# Altium footprint library 1776275_2.PcbLib: 1 footprints
Each footprint in its own frame and in the unit in brackets; x right, y up, seen from the top. Pads: shape width x height; smd on the part's side, far side on the other; paste and mask are expansions set on the pad; w line width, h text height; cw(c..) or ccw(c..) is an arc to the next point about the centre after c.
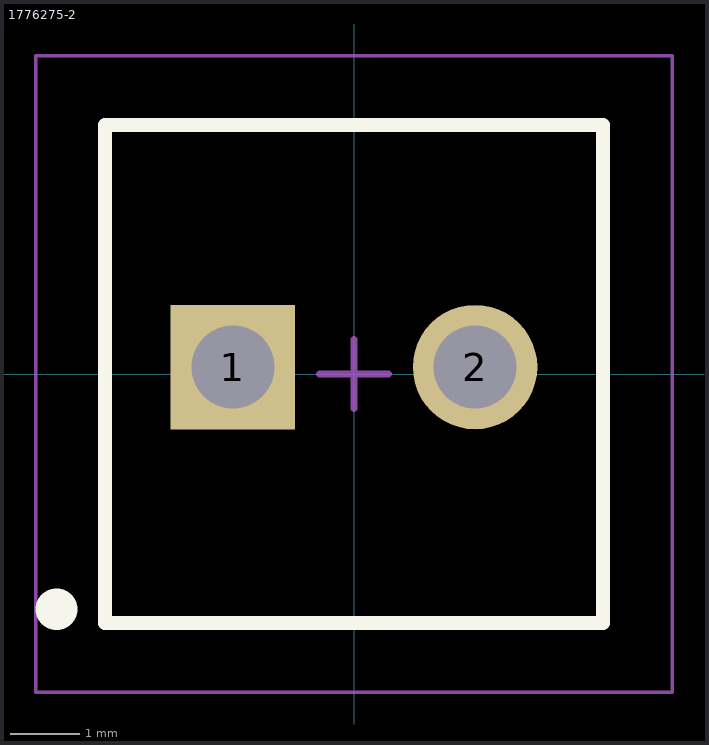
[diagram p0: the footprint, top view; thin cyan lines are the x and y axes]

## 1776275-2 [mm] "PCB Terminal Blocks, Header, Wire-to-Board, 2 Pins, 3.5mm, 1 Row, Side Wire Entry Angle, 26 – 18AWG Wire Size"
height 8.3
pads (2):
  rect 1.8x1.8 hole 1.2: 1(-1.75,0.1)
  round 1.8 hole 1.2: 2(1.75,0.1)
Top Overlay:
  circle w0.6: c-4.3,-3.4 r0.001
  lines w0.2: -3.6,-3.6 3.6,-3.6 3.6,3.6 -3.6,3.6 -3.6,-3.6
Top Comment:
  text ".Comment" at 1.35,5.35 h1.2
Top Designator:
  text ".Designator" at -0.4,5.35 h1.2
Top Component Outline:
  lines w0.1: -3.6,-3.6 3.6,-3.6 3.6,3.6 -3.6,3.6 -3.6,-3.6
Top Courtyard (Mech15):
  lines w0.05: -4.6,-4.6 -4.6,4.6 4.6,4.6 4.6,-4.6 -4.6,-4.6
  lines w0.1: -0.5,0 0.5,0 ; 0,-0.5 0,0 0,0.5
3D body "1776275-2.STEP": height 8.3, standoff -4.2, extent -4,-3.5 4,3.5